# Altium footprint library ButtonSwitch.PcbLib: 1 footprints
Each footprint in its own frame and in the unit in brackets; x right, y up, seen from the top. Pads: shape width x height; smd on the part's side, far side on the other; paste and mask are expansions set on the pad; w line width, h text height; cw(c..) or ccw(c..) is an arc to the next point about the centre after c.
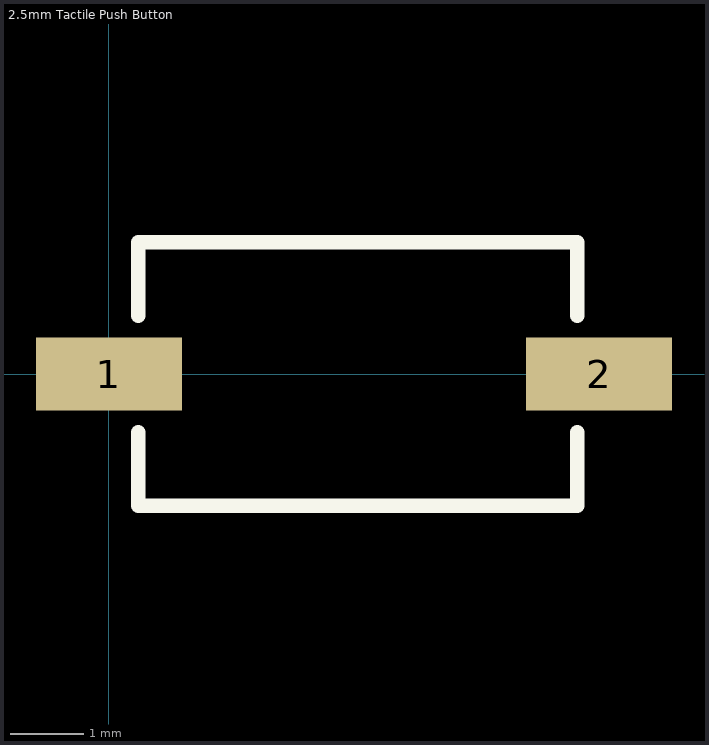
[diagram p0: the footprint, top view; thin cyan lines are the x and y axes]

## 2.5mm Tactile Push Button [mm]
pads (2):
  rect 2x1 smd: 1(0,0) 2(6.7,0)
Top Overlay:
  lines w0.2: 0.4,-0.8 0.4,-1.8 6.4,-1.8 6.4,-0.8 ; 0.4,0.8 0.4,1.8 6.4,1.8 6.4,0.8
3D body "Tactile switch 1181.step": height 2.6, standoff 0, extent -0.6,-1.8 7.4,1.8